# EAGLE library part INAIR9 (library inair-modules)
Modtronix inAir9 Module - SX1276 LoRa Module, 868MHz and 915MHz, 3.3V, SMA Connector
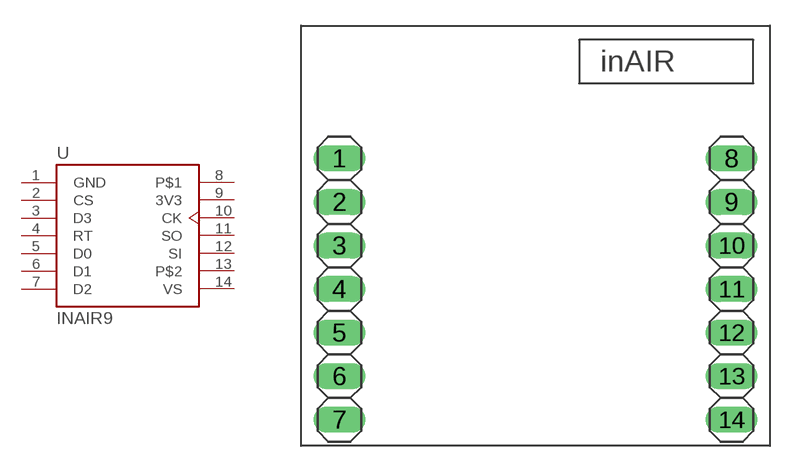
[diagram p1: symbol with the pads of INAIR; footprint INAIR]

Designator prefix -

## INAIR9  [INAIR]
1  GND  pwr
2  CS  in
3  D3  out
4  RT  in
5  D0  out
6  D1  out
7  D2  out
8  P$1
9  3V3  pwr
10  CK  in
11  SO  out
12  SI  in
13  P$2
14  VS

## Footprint INAIR (pad centres in mm)
INAIR
drill 1.016 long: 1 -11.43,4.508; 2 -11.43,1.968; 3 -11.43,-0.572; 4 -11.43,-3.111; 5 -11.43,-5.652; 6 -11.43,-8.191; 7 -11.43,-10.732; 8 11.43,4.508; 9 11.43,1.968; 10 11.43,-0.572; 11 11.43,-3.111; 12 11.43,-5.652; 13 11.43,-8.191; 14 11.43,-10.732